# Altium footprint library ESP32-WROVER-IE.PcbLib: 1 footprints
Each footprint in its own frame and in the unit in brackets; x right, y up, seen from the top. Pads: shape width x height; smd on the part's side, far side on the other; paste and mask are expansions set on the pad; w line width, h text height; cw(c..) or ccw(c..) is an arc to the next point about the centre after c.
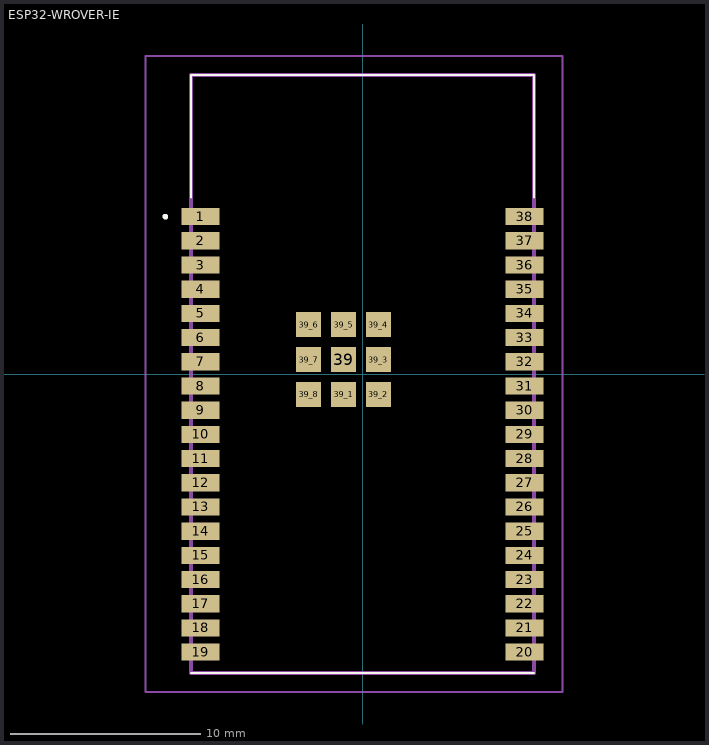
[diagram p0: the footprint, top view; thin cyan lines are the x and y axes]

## ESP32-WROVER-IE [mm]
pads (47):
  rect 2x0.9 smd: 1(-8.5,8.26) 2(-8.5,6.99) 3(-8.5,5.72) 4(-8.5,4.45) 5(-8.5,3.18) 6(-8.5,1.91) 7(-8.5,0.64) 8(-8.5,-0.63) 9(-8.5,-1.9) 10(-8.5,-3.17) 11(-8.5,-4.44) 12(-8.5,-5.71) 13(-8.5,-6.98) 14(-8.5,-8.25) 15(-8.5,-9.52) 16(-8.5,-10.79) 17(-8.5,-12.06) 18(-8.5,-13.33) 19(-8.5,-14.6) 20(8.5,-14.6) 21(8.5,-13.33) 22(8.5,-12.06) 23(8.5,-10.79) 24(8.5,-9.52) 25(8.5,-8.25) 26(8.5,-6.98) 27(8.5,-5.71) 28(8.5,-4.44) 29(8.5,-3.17) 30(8.5,-1.9) 31(8.5,-0.63) 32(8.5,0.64) 33(8.5,1.91) 34(8.5,3.18) 35(8.5,4.45) 36(8.5,5.72) 37(8.5,6.99) 38(8.5,8.26)
  rect 1.33x1.33 smd: 39(-1,0.76) 39_1(-1,-1.075) 39_2(0.835,-1.075) 39_3(0.835,0.76) 39_4(0.835,2.595) 39_5(-1,2.595) 39_6(-2.835,2.595) 39_7(-2.835,0.76) 39_8(-2.835,-1.075)
Top Overlay:
  lines w0.1: -9,15.7 9,15.7 ; -9,15.7 9,15.7 ; -9,15.7 -9,9.25 -9,15.7 ; 9,15.7 9,9.25 9,15.7 ; -9,-15.7 9,-15.7 -9,-15.7
  lines w0.2: -10.4,8.26 ccw(c-10.35,8.26) -10.3,8.26 ; -10.4,8.26 cw(c-10.35,8.26) -10.3,8.26 ; -10.4,8.26 ccw(c-10.35,8.26) -10.3,8.26
Mechanical 13:
  lines w0.2: -9,-15.7 -9,15.7 9,15.7 9,-15.7 -9,-15.7
Mechanical 15:
  lines w0.1: -11.4,-16.7 -11.4,16.7 10.5,16.7 10.5,-16.7 -11.4,-16.7
3D body "ESP32-WROVER-IE_M213EH2864UH3Q0_.stp": height 3.3, standoff 0, extent -9.45,-15.7 8.55,15.7